# Altium footprint library TMP235AEDBZRQ1.PcbLib: 4 footprints
Each footprint in its own frame and in the unit in brackets; x right, y up, seen from the top. Pads: shape width x height; smd on the part's side, far side on the other; paste and mask are expansions set on the pad; w line width, h text height; cw(c..) or ccw(c..) is an arc to the next point about the centre after c.
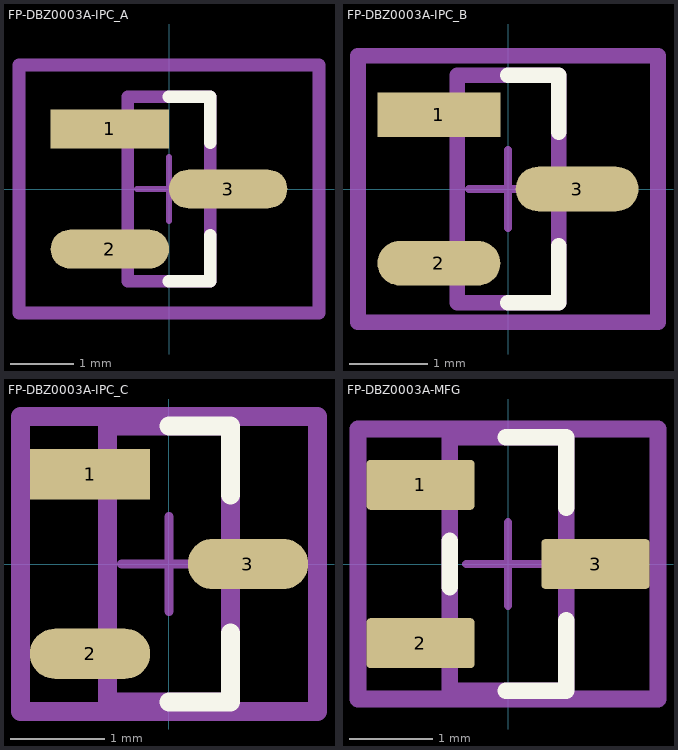
[diagram p0: the footprints below, top view; thin cyan lines are the x and y axes]

## FP-DBZ0003A-IPC_A [mm]
pads (3):
  rect 1.874x0.612 smd paste+0 mask+0: 1(-0.935,0.95)
  rrect100% 1.874x0.612 smd paste+0 mask+0: 2(-0.935,-0.95) 3(0.935,0)
Top Overlay:
  lines w0.2: 0,-1.46 0.65,-1.46 0.65,-0.73 ; 0,1.46 0.65,1.46 0.65,0.73
Top Assembly:
  lines w0.2: -2.372,-1.96 2.372,-1.96 2.372,1.96 -2.372,1.96 -2.372,-1.96
  text ".Designator" at 0,-0.001 h1
Top 3D Body:
  lines w0.2: -0.65,-1.46 0.65,-1.46 0.65,1.46 -0.65,1.46 -0.65,-1.46
Top Courtyard:
  lines w0.2: -2.372,-1.96 2.372,-1.96 2.372,1.96 -2.372,1.96 -2.372,-1.96
Top Component Center:
  lines w0.1: -0.5,0 0.5,0 ; 0,-0.5 0,0.5
3D body "IC_Texas_Instruments_DRV5032FADBZR_eec.STEP": height 0.25, standoff 0, extent -2.372,-1.96 2.372,1.96

## FP-DBZ0003A-IPC_B [mm]
pads (3):
  rect 1.574x0.572 smd paste+0 mask+0: 1(-0.885,0.95)
  rrect100% 1.574x0.572 smd paste+0 mask+0: 2(-0.885,-0.95) 3(0.885,0)
Top Overlay:
  lines w0.2: 0,-1.46 0.65,-1.46 0.65,-0.73 ; 0,1.46 0.65,1.46 0.65,0.73
Top Assembly:
  lines w0.2: -1.922,-1.71 1.922,-1.71 1.922,1.71 -1.922,1.71 -1.922,-1.71
  text ".Designator" at 0,-0.001 h1
Top 3D Body:
  lines w0.2: -0.65,-1.46 0.65,-1.46 0.65,1.46 -0.65,1.46 -0.65,-1.46
Top Courtyard:
  lines w0.2: -1.922,-1.71 1.922,-1.71 1.922,1.71 -1.922,1.71 -1.922,-1.71
Top Component Center:
  lines w0.1: -0.5,0 0.5,0 ; 0,-0.5 0,0.5
3D body "IC_Texas_Instruments_DRV5032FADBZR_eec.STEP": height 0.25, standoff 0, extent -1.922,-1.71 1.922,1.71

## FP-DBZ0003A-IPC_C [mm]
pads (3):
  rect 1.274x0.532 smd paste+0 mask+0: 1(-0.835,0.95)
  rrect100% 1.274x0.532 smd paste+0 mask+0: 2(-0.835,-0.95) 3(0.835,0)
Top Overlay:
  lines w0.2: 0,-1.46 0.65,-1.46 0.65,-0.73 ; 0,1.46 0.65,1.46 0.65,0.73
Top Assembly:
  lines w0.2: -1.572,-1.56 1.572,-1.56 1.572,1.56 -1.572,1.56 -1.572,-1.56
  text ".Designator" at 0,-0.001 h1
Top 3D Body:
  lines w0.2: -0.65,-1.46 0.65,-1.46 0.65,1.46 -0.65,1.46 -0.65,-1.46
Top Courtyard:
  lines w0.2: -1.572,-1.56 1.572,-1.56 1.572,1.56 -1.572,1.56 -1.572,-1.56
Top Component Center:
  lines w0.1: -0.5,0 0.5,0 ; 0,-0.5 0,0.5
3D body "IC_Texas_Instruments_DRV5032FADBZR_eec.STEP": height 0.25, standoff 0, extent -1.572,-1.56 1.572,1.56

## FP-DBZ0003A-MFG [mm]
pads (3):
  rrect17% 1.3x0.6 smd paste+0 mask+0: 1(-1.05,0.95) 2(-1.05,-0.95) 3(1.05,0)
Top Overlay:
  lines w0.2: -0.7,-0.275 -0.7,0.275 ; -0.025,-1.52 0.7,-1.52 0.7,-0.675 ; -0.025,1.52 0.7,1.52 0.7,0.675
Top Assembly:
  lines w0.2: -1.8,-1.62 1.8,-1.62 1.8,1.62 -1.8,1.62 -1.8,-1.62
  text ".Designator" at 0,-0.001 h1
Top 3D Body:
  lines w0.2: -0.7,-1.52 0.7,-1.52 0.7,1.52 -0.7,1.52 -0.7,-1.52
Top Courtyard:
  lines w0.2: -1.8,-1.62 1.8,-1.62 1.8,1.62 -1.8,1.62 -1.8,-1.62
Top Component Center:
  lines w0.1: -0.5,0 0.5,0 ; 0,-0.5 0,0.5
3D body "IC_Texas_Instruments_DRV5032FADBZR_eec.STEP": height 0.25, standoff 0, extent -1.8,-1.62 1.8,1.62